# EAGLE library part ADT7301 (library Kas-Sensors)
ADT7301 Temperature sensor ADT7301: 13-BIT, ±1ºC ACCURATE, MICROPOWER DIGITAL TEMPERATURE SENSOR IN 6-LEAD SOT-23 AND 8-LEAD MSOP
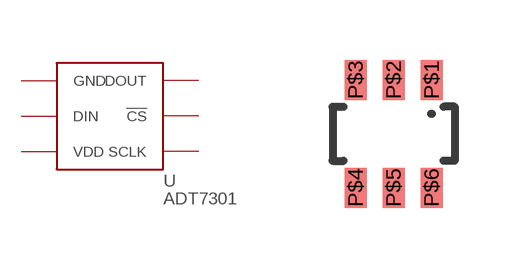
[diagram p14: symbol with the pads of SOT23-6; footprint SOT23-6]

Designator prefix U

## ADT7301  [SOT23-6]
P$1  GND
P$2  DIN
P$3  VDD
P$4  SCLK
P$5  !CS
P$6  DOUT

## Footprint SOT23-6 (pad centres in mm)
smd 0.55 x 1: P$1 0.95,1.35; P$2 0,1.35; P$3 -0.95,1.35; P$4 -0.95,-1.35; P$5 0,-1.35; P$6 0.95,-1.35